# Altium integrated library Maxim Amplifiers and Comparators.IntLib: 420 symbols (part 3 of 16)
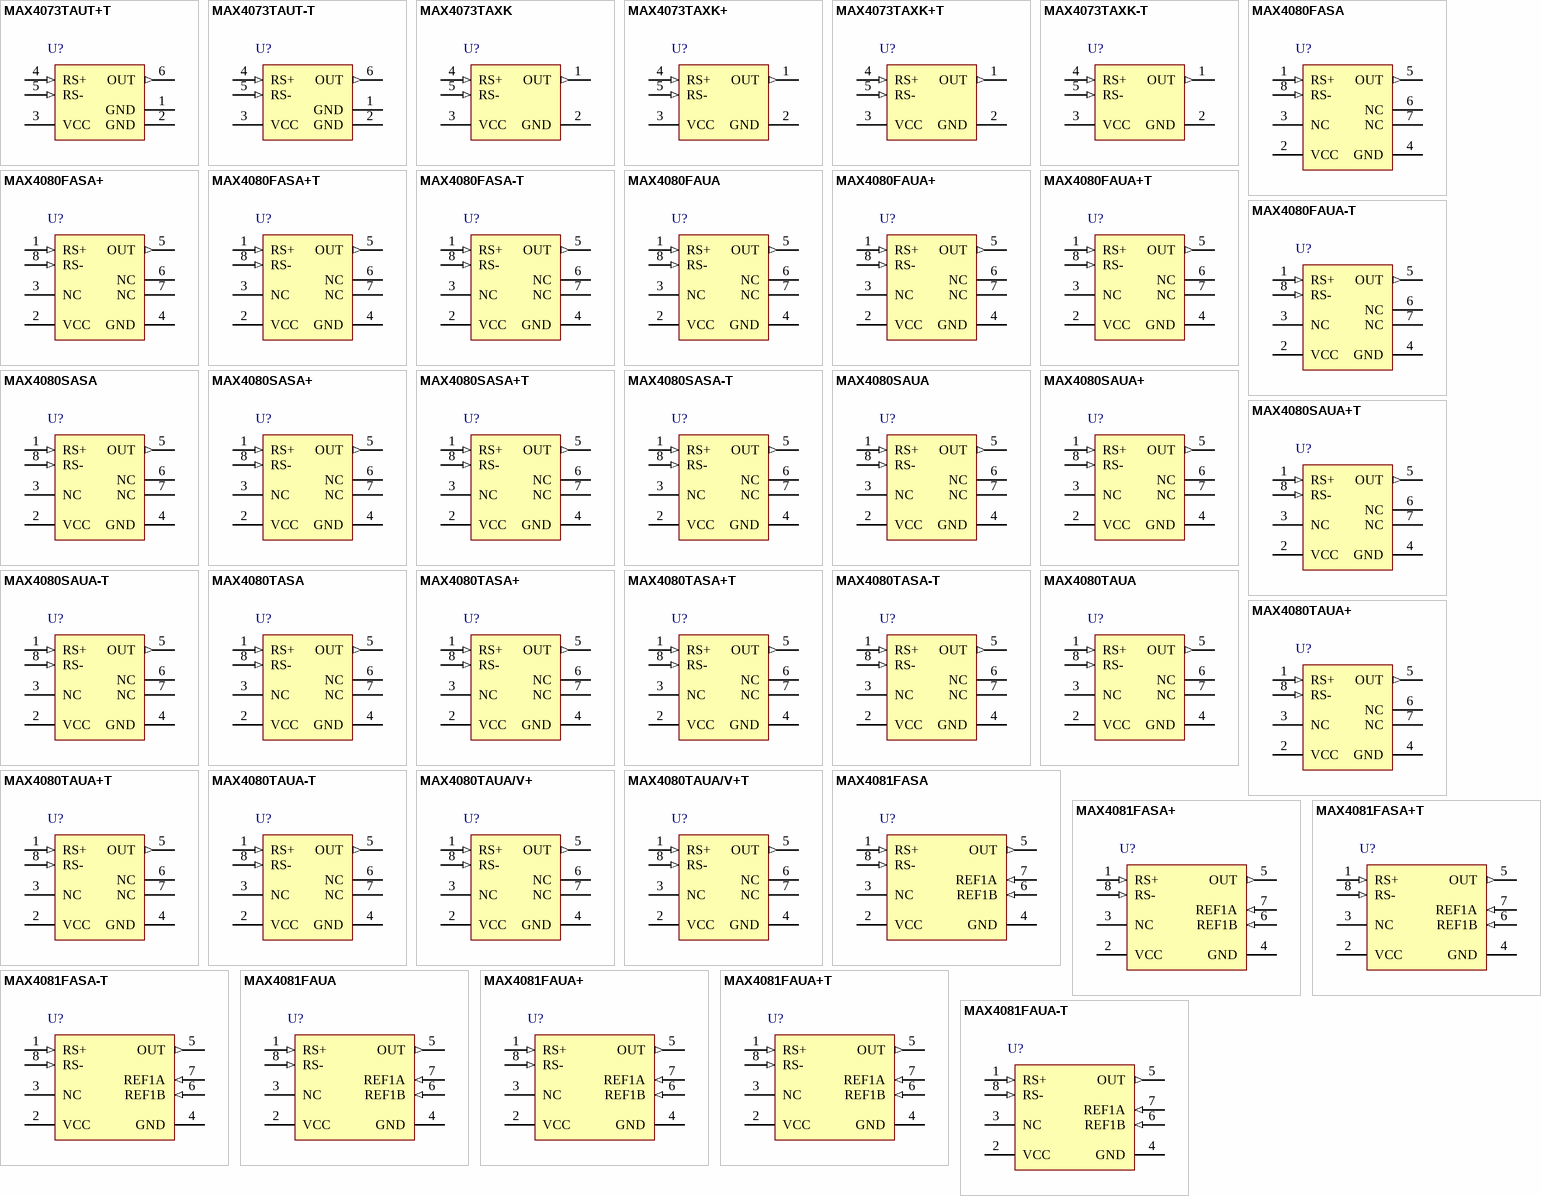
[diagram p12: symbols MAX4073TAUT+T to MAX4081FAUA-T]

## MAX4080FAUA-T
designator U?
76 V, High-Side, Uni-directional Current-Sense Amplifier, 5 V / V Gain, -40 to 125 degC, 8-Pin SOP (U8-1), Tape and Reel; PartNumber: MAX4080FAUA-T; Bi-Dir. Curr. Sense: No; Gain: 5 V/V, 20 V/V ,60 V/V; Industry Qualified: Automotive - AECQ100, Automotive - General; DatasheetVersion: Rev. 4; PackageVersion: Rev. L, 08/2009; PackageReference: U8-1; PackageDescription: 8-Pin Micro-MAX, Thin Shrink Small-Outline (U8-1), Body 3 x 3 mm, Pitch 0.65mm; Supplier 1: Mouser; Supplier Part Number 1: N/A; Mounting Technology: Surface Mount; Code_JEDEC: MO-187; ComponentLink1Description: Manufacturer URL; ComponentLink1URL: http://www.maximintegrated.com/; ComponentLink2Description: Datasheet; ComponentLink2URL: http://datasheets.maximintegrated.com/en/ds/MAX4080-MAX4081.pdf; ComponentLink3Description: Package Specification; ComponentLink3URL: http://pdfserv.maximintegrated.com/package_dwgs/21-0036.PDF
footprint MAXM-U8-1_N (SOP, 8-Leads, Body 3x3mm, Pitch 0.65mm, IPC Medium Density)
footprint MAXM-U8-1_L (SOP, 8-Leads, Body 3x3mm, Pitch 0.65mm, IPC High Density)
footprint MAXM-U8-1_M (SOP, 8-Leads, Body 3x3mm, Pitch 0.65mm, IPC Low Density)
pins: 1 RS+ (in) "Power connection to the external-sense resistor.", 2 VCC (power) "Supply Voltage Input. Decouple VCC to GND with at least a 0.1uF capacitor to bypass line transients.", 3 NC "No Connection. No internal connection. Leave open or connect to ground.", 4 GND (power) "Ground", 5 OUT (out) "Voltage Output. For the unidirectional MAX4080, VOUT is proportional to VSENSE. For the bidirectional MAX4081, the difference voltage (VOUT - VREF) is proportional to VSENSE and indicates the correct polarity.", 6 NC "No Connection. No internal connection. Leave open or connect to ground.", 7 NC "No Connection. No internal connection. Leave open or connect to ground.", 8 RS- (in) "Load connection to the external sense resistor."

## MAX4080SASA
designator U?
76 V, High-Side, Uni-directional Current-Sense Amplifier, 60 V / V Gain, -40 to 125 degC, 8-Pin SOIC (S8-2); PartNumber: MAX4080SASA; Bi-Dir. Curr. Sense: No; Gain: 5 V/V, 20 V/V ,60 V/V; Industry Qualified: Automotive - AECQ100, Automotive - General; DatasheetVersion: Rev. 4; PackageVersion: Rev. D, 10/2012; PackageReference: S8-2; PackageDescription: 8-Pin Small-Outline IC, Narrow (0.15in) (S8-2), Body 4.90 x 3.90 mm, Pitch 1.27 mm; Supplier 1: Digi-Key; Supplier Part Number 1: MAX4080SASA-ND; Supplier 2: Mouser; Supplier Part Number 2: 700-MAX4080SASA-NR; Mounting Technology: Surface Mount; Code_JEDEC: MS012; ComponentLink1Description: Manufacturer URL; ComponentLink1URL: http://www.maximintegrated.com/; ComponentLink2Description: Datasheet; ComponentLink2URL: http://datasheets.maximintegrated.com/en/ds/MAX4080-MAX4081.pdf; ComponentLink3Description: Package Specification; ComponentLink3URL: http://pdfserv.maximintegrated.com/package_dwgs/21-0041.PDF
footprint MAXM-S8-2_N (SOIC, 8-Leads, Body 4.90x3.90mm, Pitch 1.27mm, IPC Medium Density)
footprint MAXM-S8-2_L (SOIC, 8-Leads, Body 4.90x3.90mm, Pitch 1.27mm, IPC High Density)
footprint MAXM-S8-2_M (SOIC, 8-Leads, Body 4.90x3.90mm, Pitch 1.27mm, IPC Low Density)
pins: 1 RS+ (in) "Power connection to the external-sense resistor.", 2 VCC (power) "Supply Voltage Input. Decouple VCC to GND with at least a 0.1uF capacitor to bypass line transients.", 3 NC "No Connection. No internal connection. Leave open or connect to ground.", 4 GND (power) "Ground", 5 OUT (out) "Voltage Output. For the unidirectional MAX4080, VOUT is proportional to VSENSE. For the bidirectional MAX4081, the difference voltage (VOUT - VREF) is proportional to VSENSE and indicates the correct polarity.", 6 NC "No Connection. No internal connection. Leave open or connect to ground.", 7 NC "No Connection. No internal connection. Leave open or connect to ground.", 8 RS- (in) "Load connection to the external sense resistor."

## MAX4080SASA+
designator U?
76 V, High-Side, Uni-directional Current-Sense Amplifier, 60 V / V Gain, -40 to 125 degC, 8-Pin SOIC (S8+2), Pb-Free; PartNumber: MAX4080SASA+; Bi-Dir. Curr. Sense: No; Gain: 5 V/V, 20 V/V ,60 V/V; Industry Qualified: Automotive - AECQ100, Automotive - General; DatasheetVersion: Rev. 4; PackageVersion: Rev. D, 10/2012; PackageReference: S8+2; PackageDescription: 8-Pin Small-Outline IC, Narrow (0.15in) (S8+2), Body 4.90 x 3.90 mm, Pitch 1.27 mm; Supplier 1: Digi-Key; Supplier Part Number 1: MAX4080SASA+-ND; Supplier 2: Farnell; Supplier Part Number 2: 1379747; Supplier 3: Newark; Supplier Part Number 3: 37K7951; Supplier 4: Newark; Supplier Part Number 4: 26R6378; Supplier 5: Mouser; Supplier Part Number 5: 700-MAX4080SASA; Mounting Technology: Surface Mount; Code_JEDEC: MS012; ComponentLink1Description: Manufacturer URL; ComponentLink1URL: http://www.maximintegrated.com/; ComponentLink2Description: Datasheet; ComponentLink2URL: http://datasheets.maximintegrated.com/en/ds/MAX4080-MAX4081.pdf; ComponentLink3Description: Package Specification; ComponentLink3URL: http://pdfserv.maximintegrated.com/package_dwgs/21-0041.PDF
footprint MAXM-S8+2_N (SOIC, 8-Leads, Body 4.90x3.90mm, Pitch 1.27mm, IPC Medium Density)
footprint MAXM-S8+2_L (SOIC, 8-Leads, Body 4.90x3.90mm, Pitch 1.27mm, IPC High Density)
footprint MAXM-S8+2_M (SOIC, 8-Leads, Body 4.90x3.90mm, Pitch 1.27mm, IPC Low Density)
pins: 1 RS+ (in) "Power connection to the external-sense resistor.", 2 VCC (power) "Supply Voltage Input. Decouple VCC to GND with at least a 0.1uF capacitor to bypass line transients.", 3 NC "No Connection. No internal connection. Leave open or connect to ground.", 4 GND (power) "Ground", 5 OUT (out) "Voltage Output. For the unidirectional MAX4080, VOUT is proportional to VSENSE. For the bidirectional MAX4081, the difference voltage (VOUT - VREF) is proportional to VSENSE and indicates the correct polarity.", 6 NC "No Connection. No internal connection. Leave open or connect to ground.", 7 NC "No Connection. No internal connection. Leave open or connect to ground.", 8 RS- (in) "Load connection to the external sense resistor."

## MAX4080SASA+T
designator U?
76 V, High-Side, Uni-directional Current-Sense Amplifier, 60 V / V Gain, -40 to 125 degC, 8-Pin SOIC (S8+2), Pb-Free, Tape and Reel; PartNumber: MAX4080SASA+T; Bi-Dir. Curr. Sense: No; Gain: 5 V/V, 20 V/V ,60 V/V; Industry Qualified: Automotive - AECQ100, Automotive - General; DatasheetVersion: Rev. 4; PackageVersion: Rev. D, 10/2012; PackageReference: S8+2; PackageDescription: 8-Pin Small-Outline IC, Narrow (0.15in) (S8+2), Body 4.90 x 3.90 mm, Pitch 1.27 mm; Supplier 1: Digi-Key; Supplier Part Number 1: MAX4080SASA+T-ND; Supplier 2: Mouser; Supplier Part Number 2: 700-MAX4080SASA+T; Mounting Technology: Surface Mount; Code_JEDEC: MS012; ComponentLink1Description: Manufacturer URL; ComponentLink1URL: http://www.maximintegrated.com/; ComponentLink2Description: Datasheet; ComponentLink2URL: http://datasheets.maximintegrated.com/en/ds/MAX4080-MAX4081.pdf; ComponentLink3Description: Package Specification; ComponentLink3URL: http://pdfserv.maximintegrated.com/package_dwgs/21-0041.PDF
footprint MAXM-S8+2_N (SOIC, 8-Leads, Body 4.90x3.90mm, Pitch 1.27mm, IPC Medium Density)
footprint MAXM-S8+2_L (SOIC, 8-Leads, Body 4.90x3.90mm, Pitch 1.27mm, IPC High Density)
footprint MAXM-S8+2_M (SOIC, 8-Leads, Body 4.90x3.90mm, Pitch 1.27mm, IPC Low Density)
pins: 1 RS+ (in) "Power connection to the external-sense resistor.", 2 VCC (power) "Supply Voltage Input. Decouple VCC to GND with at least a 0.1uF capacitor to bypass line transients.", 3 NC "No Connection. No internal connection. Leave open or connect to ground.", 4 GND (power) "Ground", 5 OUT (out) "Voltage Output. For the unidirectional MAX4080, VOUT is proportional to VSENSE. For the bidirectional MAX4081, the difference voltage (VOUT - VREF) is proportional to VSENSE and indicates the correct polarity.", 6 NC "No Connection. No internal connection. Leave open or connect to ground.", 7 NC "No Connection. No internal connection. Leave open or connect to ground.", 8 RS- (in) "Load connection to the external sense resistor."

## MAX4080SASA-T
designator U?
76 V, High-Side, Uni-directional Current-Sense Amplifier, 60 V / V Gain, -40 to 125 degC, 8-Pin SOIC (S8-2), Tape and Reel; PartNumber: MAX4080SASA-T; Bi-Dir. Curr. Sense: No; Gain: 5 V/V, 20 V/V ,60 V/V; Industry Qualified: Automotive - AECQ100, Automotive - General; DatasheetVersion: Rev. 4; PackageVersion: Rev. D, 10/2012; PackageReference: S8-2; PackageDescription: 8-Pin Small-Outline IC, Narrow (0.15in) (S8-2), Body 4.90 x 3.90 mm, Pitch 1.27 mm; Supplier 1: Digi-Key; Supplier Part Number 1: MAX4080SASA-T-ND; Supplier 2: Mouser; Supplier Part Number 2: 700-MAX4080SASA-T-; Mounting Technology: Surface Mount; Code_JEDEC: MS012; ComponentLink1Description: Manufacturer URL; ComponentLink1URL: http://www.maximintegrated.com/; ComponentLink2Description: Datasheet; ComponentLink2URL: http://datasheets.maximintegrated.com/en/ds/MAX4080-MAX4081.pdf; ComponentLink3Description: Package Specification; ComponentLink3URL: http://pdfserv.maximintegrated.com/package_dwgs/21-0041.PDF
footprint MAXM-S8-2_N (SOIC, 8-Leads, Body 4.90x3.90mm, Pitch 1.27mm, IPC Medium Density)
footprint MAXM-S8-2_L (SOIC, 8-Leads, Body 4.90x3.90mm, Pitch 1.27mm, IPC High Density)
footprint MAXM-S8-2_M (SOIC, 8-Leads, Body 4.90x3.90mm, Pitch 1.27mm, IPC Low Density)
pins: 1 RS+ (in) "Power connection to the external-sense resistor.", 2 VCC (power) "Supply Voltage Input. Decouple VCC to GND with at least a 0.1uF capacitor to bypass line transients.", 3 NC "No Connection. No internal connection. Leave open or connect to ground.", 4 GND (power) "Ground", 5 OUT (out) "Voltage Output. For the unidirectional MAX4080, VOUT is proportional to VSENSE. For the bidirectional MAX4081, the difference voltage (VOUT - VREF) is proportional to VSENSE and indicates the correct polarity.", 6 NC "No Connection. No internal connection. Leave open or connect to ground.", 7 NC "No Connection. No internal connection. Leave open or connect to ground.", 8 RS- (in) "Load connection to the external sense resistor."

## MAX4080SAUA
designator U?
76 V, High-Side, Uni-directional Current-Sense Amplifier, 60 V / V Gain, -40 to 125 degC, 8-Pin SOP (U8-1); PartNumber: MAX4080SAUA; Bi-Dir. Curr. Sense: No; Gain: 5 V/V, 20 V/V ,60 V/V; Industry Qualified: Automotive - AECQ100, Automotive - General; DatasheetVersion: Rev. 4; PackageVersion: Rev. L, 08/2009; PackageReference: U8-1; PackageDescription: 8-Pin Micro-MAX, Thin Shrink Small-Outline (U8-1), Body 3 x 3 mm, Pitch 0.65mm; Supplier 1: Mouser; Supplier Part Number 1: 700-MAX4080SAUA-NR; Mounting Technology: Surface Mount; Code_JEDEC: MO-187; ComponentLink1Description: Manufacturer URL; ComponentLink1URL: http://www.maximintegrated.com/; ComponentLink2Description: Datasheet; ComponentLink2URL: http://datasheets.maximintegrated.com/en/ds/MAX4080-MAX4081.pdf; ComponentLink3Description: Package Specification; ComponentLink3URL: http://pdfserv.maximintegrated.com/package_dwgs/21-0036.PDF
footprint MAXM-U8-1_N (SOP, 8-Leads, Body 3x3mm, Pitch 0.65mm, IPC Medium Density)
footprint MAXM-U8-1_L (SOP, 8-Leads, Body 3x3mm, Pitch 0.65mm, IPC High Density)
footprint MAXM-U8-1_M (SOP, 8-Leads, Body 3x3mm, Pitch 0.65mm, IPC Low Density)
pins: 1 RS+ (in) "Power connection to the external-sense resistor.", 2 VCC (power) "Supply Voltage Input. Decouple VCC to GND with at least a 0.1uF capacitor to bypass line transients.", 3 NC "No Connection. No internal connection. Leave open or connect to ground.", 4 GND (power) "Ground", 5 OUT (out) "Voltage Output. For the unidirectional MAX4080, VOUT is proportional to VSENSE. For the bidirectional MAX4081, the difference voltage (VOUT - VREF) is proportional to VSENSE and indicates the correct polarity.", 6 NC "No Connection. No internal connection. Leave open or connect to ground.", 7 NC "No Connection. No internal connection. Leave open or connect to ground.", 8 RS- (in) "Load connection to the external sense resistor."

## MAX4080SAUA+
designator U?
76 V, High-Side, Uni-directional Current-Sense Amplifier, 60 V / V Gain, -40 to 125 degC, 8-Pin SOP (U8+1), Pb-Free; PartNumber: MAX4080SAUA+; Bi-Dir. Curr. Sense: No; Gain: 5 V/V, 20 V/V ,60 V/V; Industry Qualified: Automotive - AECQ100, Automotive - General; DatasheetVersion: Rev. 4; PackageVersion: Rev. L, 08/2009; PackageReference: U8+1; PackageDescription: 8-Pin Micro-MAX, Thin Shrink Small-Outline (U8+1), Body 3 x 3 mm, Pitch 0.65 mm; Supplier 1: Digi-Key; Supplier Part Number 1: MAX4080SAUA+-ND; Supplier 2: Mouser; Supplier Part Number 2: 700-MAX4080SAUA; Mounting Technology: Surface Mount; Code_JEDEC: MO-187; ComponentLink1Description: Manufacturer URL; ComponentLink1URL: http://www.maximintegrated.com/; ComponentLink2Description: Datasheet; ComponentLink2URL: http://datasheets.maximintegrated.com/en/ds/MAX4080-MAX4081.pdf; ComponentLink3Description: Package Specification; ComponentLink3URL: http://pdfserv.maximintegrated.com/package_dwgs/21-0036.PDF
footprint MAXM-U8+1_N (SOP, 8-Leads, Body 3x3mm, Pitch 0.65mm, IPC Medium Density)
footprint MAXM-U8+1_L (SOP, 8-Leads, Body 3x3mm, Pitch 0.65mm, IPC High Density)
footprint MAXM-U8+1_M (SOP, 8-Leads, Body 3x3mm, Pitch 0.65mm, IPC Low Density)
pins: 1 RS+ (in) "Power connection to the external-sense resistor.", 2 VCC (power) "Supply Voltage Input. Decouple VCC to GND with at least a 0.1uF capacitor to bypass line transients.", 3 NC "No Connection. No internal connection. Leave open or connect to ground.", 4 GND (power) "Ground", 5 OUT (out) "Voltage Output. For the unidirectional MAX4080, VOUT is proportional to VSENSE. For the bidirectional MAX4081, the difference voltage (VOUT - VREF) is proportional to VSENSE and indicates the correct polarity.", 6 NC "No Connection. No internal connection. Leave open or connect to ground.", 7 NC "No Connection. No internal connection. Leave open or connect to ground.", 8 RS- (in) "Load connection to the external sense resistor."

## MAX4080SAUA+T
designator U?
76 V, High-Side, Uni-directional Current-Sense Amplifier, 60 V / V Gain, -40 to 125 degC, 8-Pin SOP (U8+1), Pb-Free, Tape and Reel; PartNumber: MAX4080SAUA+T; Bi-Dir. Curr. Sense: No; Gain: 5 V/V, 20 V/V ,60 V/V; Industry Qualified: Automotive - AECQ100, Automotive - General; DatasheetVersion: Rev. 4; PackageVersion: Rev. L, 08/2009; PackageReference: U8+1; PackageDescription: 8-Pin Micro-MAX, Thin Shrink Small-Outline (U8+1), Body 3 x 3 mm, Pitch 0.65 mm; Supplier 1: Digi-Key; Supplier Part Number 1: MAX4080SAUA+T-ND; Supplier 2: Mouser; Supplier Part Number 2: 700-MAX4080SAUA+T; Mounting Technology: Surface Mount; Code_JEDEC: MO-187; ComponentLink1Description: Manufacturer URL; ComponentLink1URL: http://www.maximintegrated.com/; ComponentLink2Description: Datasheet; ComponentLink2URL: http://datasheets.maximintegrated.com/en/ds/MAX4080-MAX4081.pdf; ComponentLink3Description: Package Specification; ComponentLink3URL: http://pdfserv.maximintegrated.com/package_dwgs/21-0036.PDF
footprint MAXM-U8+1_N (SOP, 8-Leads, Body 3x3mm, Pitch 0.65mm, IPC Medium Density)
footprint MAXM-U8+1_L (SOP, 8-Leads, Body 3x3mm, Pitch 0.65mm, IPC High Density)
footprint MAXM-U8+1_M (SOP, 8-Leads, Body 3x3mm, Pitch 0.65mm, IPC Low Density)
pins: 1 RS+ (in) "Power connection to the external-sense resistor.", 2 VCC (power) "Supply Voltage Input. Decouple VCC to GND with at least a 0.1uF capacitor to bypass line transients.", 3 NC "No Connection. No internal connection. Leave open or connect to ground.", 4 GND (power) "Ground", 5 OUT (out) "Voltage Output. For the unidirectional MAX4080, VOUT is proportional to VSENSE. For the bidirectional MAX4081, the difference voltage (VOUT - VREF) is proportional to VSENSE and indicates the correct polarity.", 6 NC "No Connection. No internal connection. Leave open or connect to ground.", 7 NC "No Connection. No internal connection. Leave open or connect to ground.", 8 RS- (in) "Load connection to the external sense resistor."

## MAX4080SAUA-T
designator U?
76 V, High-Side, Uni-directional Current-Sense Amplifier, 60 V / V Gain, -40 to 125 degC, 8-Pin SOP (U8-1), Tape and Reel; PartNumber: MAX4080SAUA-T; Bi-Dir. Curr. Sense: No; Gain: 5 V/V, 20 V/V ,60 V/V; Industry Qualified: Automotive - AECQ100, Automotive - General; DatasheetVersion: Rev. 4; PackageVersion: Rev. L, 08/2009; PackageReference: U8-1; PackageDescription: 8-Pin Micro-MAX, Thin Shrink Small-Outline (U8-1), Body 3 x 3 mm, Pitch 0.65mm; Supplier 1: Mouser; Supplier Part Number 1: 700-MAX4080SAUA-T-; Mounting Technology: Surface Mount; Code_JEDEC: MO-187; ComponentLink1Description: Manufacturer URL; ComponentLink1URL: http://www.maximintegrated.com/; ComponentLink2Description: Datasheet; ComponentLink2URL: http://datasheets.maximintegrated.com/en/ds/MAX4080-MAX4081.pdf; ComponentLink3Description: Package Specification; ComponentLink3URL: http://pdfserv.maximintegrated.com/package_dwgs/21-0036.PDF
footprint MAXM-U8-1_N (SOP, 8-Leads, Body 3x3mm, Pitch 0.65mm, IPC Medium Density)
footprint MAXM-U8-1_L (SOP, 8-Leads, Body 3x3mm, Pitch 0.65mm, IPC High Density)
footprint MAXM-U8-1_M (SOP, 8-Leads, Body 3x3mm, Pitch 0.65mm, IPC Low Density)
pins: 1 RS+ (in) "Power connection to the external-sense resistor.", 2 VCC (power) "Supply Voltage Input. Decouple VCC to GND with at least a 0.1uF capacitor to bypass line transients.", 3 NC "No Connection. No internal connection. Leave open or connect to ground.", 4 GND (power) "Ground", 5 OUT (out) "Voltage Output. For the unidirectional MAX4080, VOUT is proportional to VSENSE. For the bidirectional MAX4081, the difference voltage (VOUT - VREF) is proportional to VSENSE and indicates the correct polarity.", 6 NC "No Connection. No internal connection. Leave open or connect to ground.", 7 NC "No Connection. No internal connection. Leave open or connect to ground.", 8 RS- (in) "Load connection to the external sense resistor."

## MAX4080TASA
designator U?
76 V, High-Side, Uni-directional Current-Sense Amplifier, 20 V / V Gain, -40 to 125 degC, 8-Pin SOIC (S8-2); PartNumber: MAX4080TASA; Bi-Dir. Curr. Sense: No; Gain: 5 V/V, 20 V/V ,60 V/V; Industry Qualified: Automotive - AECQ100, Automotive - General; DatasheetVersion: Rev. 4; PackageVersion: Rev. D, 10/2012; PackageReference: S8-2; PackageDescription: 8-Pin Small-Outline IC, Narrow (0.15in) (S8-2), Body 4.90 x 3.90 mm, Pitch 1.27 mm; Supplier 1: Digi-Key; Supplier Part Number 1: MAX4080TASA-ND; Supplier 2: Mouser; Supplier Part Number 2: 700-MAX4080TASA-NR; Mounting Technology: Surface Mount; Code_JEDEC: MS012; ComponentLink1Description: Manufacturer URL; ComponentLink1URL: http://www.maximintegrated.com/; ComponentLink2Description: Datasheet; ComponentLink2URL: http://datasheets.maximintegrated.com/en/ds/MAX4080-MAX4081.pdf; ComponentLink3Description: Package Specification; ComponentLink3URL: http://pdfserv.maximintegrated.com/package_dwgs/21-0041.PDF
footprint MAXM-S8-2_N (SOIC, 8-Leads, Body 4.90x3.90mm, Pitch 1.27mm, IPC Medium Density)
footprint MAXM-S8-2_L (SOIC, 8-Leads, Body 4.90x3.90mm, Pitch 1.27mm, IPC High Density)
footprint MAXM-S8-2_M (SOIC, 8-Leads, Body 4.90x3.90mm, Pitch 1.27mm, IPC Low Density)
pins: 1 RS+ (in) "Power connection to the external-sense resistor.", 2 VCC (power) "Supply Voltage Input. Decouple VCC to GND with at least a 0.1uF capacitor to bypass line transients.", 3 NC "No Connection. No internal connection. Leave open or connect to ground.", 4 GND (power) "Ground", 5 OUT (out) "Voltage Output. For the unidirectional MAX4080, VOUT is proportional to VSENSE. For the bidirectional MAX4081, the difference voltage (VOUT - VREF) is proportional to VSENSE and indicates the correct polarity.", 6 NC "No Connection. No internal connection. Leave open or connect to ground.", 7 NC "No Connection. No internal connection. Leave open or connect to ground.", 8 RS- (in) "Load connection to the external sense resistor."

## MAX4080TASA+
designator U?
76 V, High-Side, Uni-directional Current-Sense Amplifier, 20 V / V Gain, -40 to 125 degC, 8-Pin SOIC (S8+2), Pb-Free; PartNumber: MAX4080TASA+; Bi-Dir. Curr. Sense: No; Gain: 5 V/V, 20 V/V ,60 V/V; Industry Qualified: Automotive - AECQ100, Automotive - General; DatasheetVersion: Rev. 4; PackageVersion: Rev. D, 10/2012; PackageReference: S8+2; PackageDescription: 8-Pin Small-Outline IC, Narrow (0.15in) (S8+2), Body 4.90 x 3.90 mm, Pitch 1.27 mm; Supplier 1: Digi-Key; Supplier Part Number 1: MAX4080TASA+-ND; Supplier 2: Farnell; Supplier Part Number 2: 1593368; Supplier 3: Newark; Supplier Part Number 3: 08J7675; Supplier 4: Newark; Supplier Part Number 4: 26R6379; Supplier 5: Mouser; Supplier Part Number 5: 700-MAX4080TASA; Mounting Technology: Surface Mount; Code_JEDEC: MS012; ComponentLink1Description: Manufacturer URL; ComponentLink1URL: http://www.maximintegrated.com/; ComponentLink2Description: Datasheet; ComponentLink2URL: http://datasheets.maximintegrated.com/en/ds/MAX4080-MAX4081.pdf; ComponentLink3Description: Package Specification; ComponentLink3URL: http://pdfserv.maximintegrated.com/package_dwgs/21-0041.PDF
footprint MAXM-S8+2_N (SOIC, 8-Leads, Body 4.90x3.90mm, Pitch 1.27mm, IPC Medium Density)
footprint MAXM-S8+2_L (SOIC, 8-Leads, Body 4.90x3.90mm, Pitch 1.27mm, IPC High Density)
footprint MAXM-S8+2_M (SOIC, 8-Leads, Body 4.90x3.90mm, Pitch 1.27mm, IPC Low Density)
pins: 1 RS+ (in) "Power connection to the external-sense resistor.", 2 VCC (power) "Supply Voltage Input. Decouple VCC to GND with at least a 0.1uF capacitor to bypass line transients.", 3 NC "No Connection. No internal connection. Leave open or connect to ground.", 4 GND (power) "Ground", 5 OUT (out) "Voltage Output. For the unidirectional MAX4080, VOUT is proportional to VSENSE. For the bidirectional MAX4081, the difference voltage (VOUT - VREF) is proportional to VSENSE and indicates the correct polarity.", 6 NC "No Connection. No internal connection. Leave open or connect to ground.", 7 NC "No Connection. No internal connection. Leave open or connect to ground.", 8 RS- (in) "Load connection to the external sense resistor."

## MAX4080TASA+T
designator U?
76 V, High-Side, Uni-directional Current-Sense Amplifier, 20 V / V Gain, -40 to 125 degC, 8-Pin SOIC (S8+2), Pb-Free, Tape and Reel; PartNumber: MAX4080TASA+T; Bi-Dir. Curr. Sense: No; Gain: 5 V/V, 20 V/V ,60 V/V; Industry Qualified: Automotive - AECQ100, Automotive - General; DatasheetVersion: Rev. 4; PackageVersion: Rev. D, 10/2012; PackageReference: S8+2; PackageDescription: 8-Pin Small-Outline IC, Narrow (0.15in) (S8+2), Body 4.90 x 3.90 mm, Pitch 1.27 mm; Supplier 1: Digi-Key; Supplier Part Number 1: MAX4080TASA+T-ND; Supplier 2: Mouser; Supplier Part Number 2: 700-MAX4080TASA+T; Mounting Technology: Surface Mount; Code_JEDEC: MS012; ComponentLink1Description: Manufacturer URL; ComponentLink1URL: http://www.maximintegrated.com/; ComponentLink2Description: Datasheet; ComponentLink2URL: http://datasheets.maximintegrated.com/en/ds/MAX4080-MAX4081.pdf; ComponentLink3Description: Package Specification; ComponentLink3URL: http://pdfserv.maximintegrated.com/package_dwgs/21-0041.PDF
footprint MAXM-S8+2_N (SOIC, 8-Leads, Body 4.90x3.90mm, Pitch 1.27mm, IPC Medium Density)
footprint MAXM-S8+2_L (SOIC, 8-Leads, Body 4.90x3.90mm, Pitch 1.27mm, IPC High Density)
footprint MAXM-S8+2_M (SOIC, 8-Leads, Body 4.90x3.90mm, Pitch 1.27mm, IPC Low Density)
pins: 1 RS+ (in) "Power connection to the external-sense resistor.", 2 VCC (power) "Supply Voltage Input. Decouple VCC to GND with at least a 0.1uF capacitor to bypass line transients.", 3 NC "No Connection. No internal connection. Leave open or connect to ground.", 4 GND (power) "Ground", 5 OUT (out) "Voltage Output. For the unidirectional MAX4080, VOUT is proportional to VSENSE. For the bidirectional MAX4081, the difference voltage (VOUT - VREF) is proportional to VSENSE and indicates the correct polarity.", 6 NC "No Connection. No internal connection. Leave open or connect to ground.", 7 NC "No Connection. No internal connection. Leave open or connect to ground.", 8 RS- (in) "Load connection to the external sense resistor."

## MAX4080TASA-T
designator U?
76 V, High-Side, Uni-directional Current-Sense Amplifier, 20 V / V Gain, -40 to 125 degC, 8-Pin SOIC (S8-2), Tape and Reel; PartNumber: MAX4080TASA-T; Bi-Dir. Curr. Sense: No; Gain: 5 V/V, 20 V/V ,60 V/V; Industry Qualified: Automotive - AECQ100, Automotive - General; DatasheetVersion: Rev. 4; PackageVersion: Rev. D, 10/2012; PackageReference: S8-2; PackageDescription: 8-Pin Small-Outline IC, Narrow (0.15in) (S8-2), Body 4.90 x 3.90 mm, Pitch 1.27 mm; Supplier 1: Digi-Key; Supplier Part Number 1: MAX4080TASA-T-ND; Supplier 2: Mouser; Supplier Part Number 2: 700-MAX4080TASA-T-; Mounting Technology: Surface Mount; Code_JEDEC: MS012; ComponentLink1Description: Manufacturer URL; ComponentLink1URL: http://www.maximintegrated.com/; ComponentLink2Description: Datasheet; ComponentLink2URL: http://datasheets.maximintegrated.com/en/ds/MAX4080-MAX4081.pdf; ComponentLink3Description: Package Specification; ComponentLink3URL: http://pdfserv.maximintegrated.com/package_dwgs/21-0041.PDF
footprint MAXM-S8-2_N (SOIC, 8-Leads, Body 4.90x3.90mm, Pitch 1.27mm, IPC Medium Density)
footprint MAXM-S8-2_L (SOIC, 8-Leads, Body 4.90x3.90mm, Pitch 1.27mm, IPC High Density)
footprint MAXM-S8-2_M (SOIC, 8-Leads, Body 4.90x3.90mm, Pitch 1.27mm, IPC Low Density)
pins: 1 RS+ (in) "Power connection to the external-sense resistor.", 2 VCC (power) "Supply Voltage Input. Decouple VCC to GND with at least a 0.1uF capacitor to bypass line transients.", 3 NC "No Connection. No internal connection. Leave open or connect to ground.", 4 GND (power) "Ground", 5 OUT (out) "Voltage Output. For the unidirectional MAX4080, VOUT is proportional to VSENSE. For the bidirectional MAX4081, the difference voltage (VOUT - VREF) is proportional to VSENSE and indicates the correct polarity.", 6 NC "No Connection. No internal connection. Leave open or connect to ground.", 7 NC "No Connection. No internal connection. Leave open or connect to ground.", 8 RS- (in) "Load connection to the external sense resistor."

## MAX4080TAUA
designator U?
76 V, High-Side, Uni-directional Current-Sense Amplifier, 20 V / V Gain, -40 to 125 degC, 8-Pin SOP (U8-1); PartNumber: MAX4080TAUA; Bi-Dir. Curr. Sense: No; Gain: 5 V/V, 20 V/V ,60 V/V; Industry Qualified: Automotive - AECQ100, Automotive - General; DatasheetVersion: Rev. 4; PackageVersion: Rev. L, 08/2009; PackageReference: U8-1; PackageDescription: 8-Pin Micro-MAX, Thin Shrink Small-Outline (U8-1), Body 3 x 3 mm, Pitch 0.65mm; Supplier 1: Digi-Key; Supplier Part Number 1: MAX4080TAUA-ND; Supplier 2: Mouser; Supplier Part Number 2: 700-MAX4080TAUA-NR; Mounting Technology: Surface Mount; Code_JEDEC: MO-187; ComponentLink1Description: Manufacturer URL; ComponentLink1URL: http://www.maximintegrated.com/; ComponentLink2Description: Datasheet; ComponentLink2URL: http://datasheets.maximintegrated.com/en/ds/MAX4080-MAX4081.pdf; ComponentLink3Description: Package Specification; ComponentLink3URL: http://pdfserv.maximintegrated.com/package_dwgs/21-0036.PDF
footprint MAXM-U8-1_N (SOP, 8-Leads, Body 3x3mm, Pitch 0.65mm, IPC Medium Density)
footprint MAXM-U8-1_L (SOP, 8-Leads, Body 3x3mm, Pitch 0.65mm, IPC High Density)
footprint MAXM-U8-1_M (SOP, 8-Leads, Body 3x3mm, Pitch 0.65mm, IPC Low Density)
pins: 1 RS+ (in) "Power connection to the external-sense resistor.", 2 VCC (power) "Supply Voltage Input. Decouple VCC to GND with at least a 0.1uF capacitor to bypass line transients.", 3 NC "No Connection. No internal connection. Leave open or connect to ground.", 4 GND (power) "Ground", 5 OUT (out) "Voltage Output. For the unidirectional MAX4080, VOUT is proportional to VSENSE. For the bidirectional MAX4081, the difference voltage (VOUT - VREF) is proportional to VSENSE and indicates the correct polarity.", 6 NC "No Connection. No internal connection. Leave open or connect to ground.", 7 NC "No Connection. No internal connection. Leave open or connect to ground.", 8 RS- (in) "Load connection to the external sense resistor."

## MAX4080TAUA+
designator U?
76 V, High-Side, Uni-directional Current-Sense Amplifier, 20 V / V Gain, -40 to 125 degC, 8-Pin SOP (U8+1), Pb-Free; PartNumber: MAX4080TAUA+; Bi-Dir. Curr. Sense: No; Gain: 5 V/V, 20 V/V ,60 V/V; Industry Qualified: Automotive - AECQ100, Automotive - General; DatasheetVersion: Rev. 4; PackageVersion: Rev. L, 08/2009; PackageReference: U8+1; PackageDescription: 8-Pin Micro-MAX, Thin Shrink Small-Outline (U8+1), Body 3 x 3 mm, Pitch 0.65 mm; Supplier 1: Digi-Key; Supplier Part Number 1: MAX4080TAUA+-ND; Supplier 2: Farnell; Supplier Part Number 2: 2113113; Supplier 3: Newark; Supplier Part Number 3: 95T9189; Supplier 4: Mouser; Supplier Part Number 4: 700-MAX4080TAUA; Mounting Technology: Surface Mount; Code_JEDEC: MO-187; ComponentLink1Description: Manufacturer URL; ComponentLink1URL: http://www.maximintegrated.com/; ComponentLink2Description: Datasheet; ComponentLink2URL: http://datasheets.maximintegrated.com/en/ds/MAX4080-MAX4081.pdf; ComponentLink3Description: Package Specification; ComponentLink3URL: http://pdfserv.maximintegrated.com/package_dwgs/21-0036.PDF
footprint MAXM-U8+1_N (SOP, 8-Leads, Body 3x3mm, Pitch 0.65mm, IPC Medium Density)
footprint MAXM-U8+1_L (SOP, 8-Leads, Body 3x3mm, Pitch 0.65mm, IPC High Density)
footprint MAXM-U8+1_M (SOP, 8-Leads, Body 3x3mm, Pitch 0.65mm, IPC Low Density)
pins: 1 RS+ (in) "Power connection to the external-sense resistor.", 2 VCC (power) "Supply Voltage Input. Decouple VCC to GND with at least a 0.1uF capacitor to bypass line transients.", 3 NC "No Connection. No internal connection. Leave open or connect to ground.", 4 GND (power) "Ground", 5 OUT (out) "Voltage Output. For the unidirectional MAX4080, VOUT is proportional to VSENSE. For the bidirectional MAX4081, the difference voltage (VOUT - VREF) is proportional to VSENSE and indicates the correct polarity.", 6 NC "No Connection. No internal connection. Leave open or connect to ground.", 7 NC "No Connection. No internal connection. Leave open or connect to ground.", 8 RS- (in) "Load connection to the external sense resistor."

## MAX4080TAUA+T
designator U?
76 V, High-Side, Uni-directional Current-Sense Amplifier, 20 V / V Gain, -40 to 125 degC, 8-Pin SOP (U8+1), Pb-Free, Tape and Reel; PartNumber: MAX4080TAUA+T; Bi-Dir. Curr. Sense: No; Gain: 5 V/V, 20 V/V ,60 V/V; Industry Qualified: Automotive - AECQ100, Automotive - General; DatasheetVersion: Rev. 4; PackageVersion: Rev. L, 08/2009; PackageReference: U8+1; PackageDescription: 8-Pin Micro-MAX, Thin Shrink Small-Outline (U8+1), Body 3 x 3 mm, Pitch 0.65 mm; Supplier 1: Digi-Key; Supplier Part Number 1: MAX4080TAUA+T-ND; Supplier 2: Mouser; Supplier Part Number 2: 700-MAX4080TAUA+T; Mounting Technology: Surface Mount; Code_JEDEC: MO-187; ComponentLink1Description: Manufacturer URL; ComponentLink1URL: http://www.maximintegrated.com/; ComponentLink2Description: Datasheet; ComponentLink2URL: http://datasheets.maximintegrated.com/en/ds/MAX4080-MAX4081.pdf; ComponentLink3Description: Package Specification; ComponentLink3URL: http://pdfserv.maximintegrated.com/package_dwgs/21-0036.PDF
footprint MAXM-U8+1_N (SOP, 8-Leads, Body 3x3mm, Pitch 0.65mm, IPC Medium Density)
footprint MAXM-U8+1_L (SOP, 8-Leads, Body 3x3mm, Pitch 0.65mm, IPC High Density)
footprint MAXM-U8+1_M (SOP, 8-Leads, Body 3x3mm, Pitch 0.65mm, IPC Low Density)
pins: 1 RS+ (in) "Power connection to the external-sense resistor.", 2 VCC (power) "Supply Voltage Input. Decouple VCC to GND with at least a 0.1uF capacitor to bypass line transients.", 3 NC "No Connection. No internal connection. Leave open or connect to ground.", 4 GND (power) "Ground", 5 OUT (out) "Voltage Output. For the unidirectional MAX4080, VOUT is proportional to VSENSE. For the bidirectional MAX4081, the difference voltage (VOUT - VREF) is proportional to VSENSE and indicates the correct polarity.", 6 NC "No Connection. No internal connection. Leave open or connect to ground.", 7 NC "No Connection. No internal connection. Leave open or connect to ground.", 8 RS- (in) "Load connection to the external sense resistor."

## MAX4080TAUA-T
designator U?
76 V, High-Side, Uni-directional Current-Sense Amplifier, 20 V / V Gain, -40 to 125 degC, 8-Pin SOP (U8-1), Tape and Reel; PartNumber: MAX4080TAUA-T; Bi-Dir. Curr. Sense: No; Gain: 5 V/V, 20 V/V ,60 V/V; Industry Qualified: Automotive - AECQ100, Automotive - General; DatasheetVersion: Rev. 4; PackageVersion: Rev. L, 08/2009; PackageReference: U8-1; PackageDescription: 8-Pin Micro-MAX, Thin Shrink Small-Outline (U8-1), Body 3 x 3 mm, Pitch 0.65mm; Supplier 1: Digi-Key; Supplier Part Number 1: MAX4080TAUA-T-ND; Supplier 2: Mouser; Supplier Part Number 2: 700-MAX4080TAUA-T-; Mounting Technology: Surface Mount; Code_JEDEC: MO-187; ComponentLink1Description: Manufacturer URL; ComponentLink1URL: http://www.maximintegrated.com/; ComponentLink2Description: Datasheet; ComponentLink2URL: http://datasheets.maximintegrated.com/en/ds/MAX4080-MAX4081.pdf; ComponentLink3Description: Package Specification; ComponentLink3URL: http://pdfserv.maximintegrated.com/package_dwgs/21-0036.PDF
footprint MAXM-U8-1_N (SOP, 8-Leads, Body 3x3mm, Pitch 0.65mm, IPC Medium Density)
footprint MAXM-U8-1_L (SOP, 8-Leads, Body 3x3mm, Pitch 0.65mm, IPC High Density)
footprint MAXM-U8-1_M (SOP, 8-Leads, Body 3x3mm, Pitch 0.65mm, IPC Low Density)
pins: 1 RS+ (in) "Power connection to the external-sense resistor.", 2 VCC (power) "Supply Voltage Input. Decouple VCC to GND with at least a 0.1uF capacitor to bypass line transients.", 3 NC "No Connection. No internal connection. Leave open or connect to ground.", 4 GND (power) "Ground", 5 OUT (out) "Voltage Output. For the unidirectional MAX4080, VOUT is proportional to VSENSE. For the bidirectional MAX4081, the difference voltage (VOUT - VREF) is proportional to VSENSE and indicates the correct polarity.", 6 NC "No Connection. No internal connection. Leave open or connect to ground.", 7 NC "No Connection. No internal connection. Leave open or connect to ground.", 8 RS- (in) "Load connection to the external sense resistor."

## MAX4080TAUA/V+
designator U?
76 V, High-Side, Uni-directional Current-Sense Amplifier, 20 V / V Gain, -40 to 125 degC, 8-Pin SOP (U8+1), Pb-Free; PartNumber: MAX4080TAUA/V+; Bi-Dir. Curr. Sense: No; Gain: 5 V/V, 20 V/V ,60 V/V; Industry Qualified: Automotive - AECQ100, Automotive - General; DatasheetVersion: Rev. 4; PackageVersion: Rev. L, 08/2009; PackageReference: U8+1; PackageDescription: 8-Pin Micro-MAX, Thin Shrink Small-Outline (U8+1), Body 3 x 3 mm, Pitch 0.65 mm; Supplier 1: Digi-Key; Supplier Part Number 1: MAX4080TAUA/V+-ND; Supplier 2: Mouser; Supplier Part Number 2: 700-MAX4080TAUAV+; Mounting Technology: Surface Mount; Code_JEDEC: MO-187; ComponentLink1Description: Manufacturer URL; ComponentLink1URL: http://www.maximintegrated.com/; ComponentLink2Description: Datasheet; ComponentLink2URL: http://datasheets.maximintegrated.com/en/ds/MAX4080-MAX4081.pdf; ComponentLink3Description: Package Specification; ComponentLink3URL: http://pdfserv.maximintegrated.com/package_dwgs/21-0036.PDF
footprint MAXM-U8+1_N (SOP, 8-Leads, Body 3x3mm, Pitch 0.65mm, IPC Medium Density)
footprint MAXM-U8+1_L (SOP, 8-Leads, Body 3x3mm, Pitch 0.65mm, IPC High Density)
footprint MAXM-U8+1_M (SOP, 8-Leads, Body 3x3mm, Pitch 0.65mm, IPC Low Density)
pins: 1 RS+ (in) "Power connection to the external-sense resistor.", 2 VCC (power) "Supply Voltage Input. Decouple VCC to GND with at least a 0.1uF capacitor to bypass line transients.", 3 NC "No Connection. No internal connection. Leave open or connect to ground.", 4 GND (power) "Ground", 5 OUT (out) "Voltage Output. For the unidirectional MAX4080, VOUT is proportional to VSENSE. For the bidirectional MAX4081, the difference voltage (VOUT - VREF) is proportional to VSENSE and indicates the correct polarity.", 6 NC "No Connection. No internal connection. Leave open or connect to ground.", 7 NC "No Connection. No internal connection. Leave open or connect to ground.", 8 RS- (in) "Load connection to the external sense resistor."

## MAX4080TAUA/V+T
designator U?
76 V, High-Side, Uni-directional Current-Sense Amplifier, 20 V / V Gain, -40 to 125 degC, 8-Pin SOP (U8+1), Pb-Free, Tape and Reel; PartNumber: MAX4080TAUA/V+T; Bi-Dir. Curr. Sense: No; Gain: 5 V/V, 20 V/V ,60 V/V; Industry Qualified: Automotive - AECQ100, Automotive - General; DatasheetVersion: Rev. 4; PackageVersion: Rev. L, 08/2009; PackageReference: U8+1; PackageDescription: 8-Pin Micro-MAX, Thin Shrink Small-Outline (U8+1), Body 3 x 3 mm, Pitch 0.65 mm; Supplier 1: Digi-Key; Supplier Part Number 1: MAX4080TAUA/V+T-ND; Supplier 2: Mouser; Supplier Part Number 2: 700-MAX4080TAUAV+T; Mounting Technology: Surface Mount; Code_JEDEC: MO-187; ComponentLink1Description: Manufacturer URL; ComponentLink1URL: http://www.maximintegrated.com/; ComponentLink2Description: Datasheet; ComponentLink2URL: http://datasheets.maximintegrated.com/en/ds/MAX4080-MAX4081.pdf; ComponentLink3Description: Package Specification; ComponentLink3URL: http://pdfserv.maximintegrated.com/package_dwgs/21-0036.PDF
footprint MAXM-U8+1_N (SOP, 8-Leads, Body 3x3mm, Pitch 0.65mm, IPC Medium Density)
footprint MAXM-U8+1_L (SOP, 8-Leads, Body 3x3mm, Pitch 0.65mm, IPC High Density)
footprint MAXM-U8+1_M (SOP, 8-Leads, Body 3x3mm, Pitch 0.65mm, IPC Low Density)
pins: 1 RS+ (in) "Power connection to the external-sense resistor.", 2 VCC (power) "Supply Voltage Input. Decouple VCC to GND with at least a 0.1uF capacitor to bypass line transients.", 3 NC "No Connection. No internal connection. Leave open or connect to ground.", 4 GND (power) "Ground", 5 OUT (out) "Voltage Output. For the unidirectional MAX4080, VOUT is proportional to VSENSE. For the bidirectional MAX4081, the difference voltage (VOUT - VREF) is proportional to VSENSE and indicates the correct polarity.", 6 NC "No Connection. No internal connection. Leave open or connect to ground.", 7 NC "No Connection. No internal connection. Leave open or connect to ground.", 8 RS- (in) "Load connection to the external sense resistor."

## MAX4081FASA
designator U?
76 V, High-Side, Bi-directional Current-Sense Amplifier, 5 V / V Gain, -40 to 125 degC, 8-Pin SOIC (S8-2); PartNumber: MAX4081FASA; Bi-Dir. Curr. Sense: Yes; Gain: 5 V/V, 20 V/V ,60 V/V; Industry Qualified: Automotive - AECQ100, Automotive - General; DatasheetVersion: Rev. 4; PackageVersion: Rev. D, 10/2012; PackageReference: S8-2; PackageDescription: 8-Pin Small-Outline IC, Narrow (0.15in) (S8-2), Body 4.90 x 3.90 mm, Pitch 1.27 mm; Supplier 1: Digi-Key; Supplier Part Number 1: MAX4081FASA-ND; Supplier 2: Mouser; Supplier Part Number 2: 700-MAX4081FASA-NR; Mounting Technology: Surface Mount; Code_JEDEC: MS012; ComponentLink1Description: Manufacturer URL; ComponentLink1URL: http://www.maximintegrated.com/; ComponentLink2Description: Datasheet; ComponentLink2URL: http://datasheets.maximintegrated.com/en/ds/MAX4080-MAX4081.pdf; ComponentLink3Description: Package Specification; ComponentLink3URL: http://pdfserv.maximintegrated.com/package_dwgs/21-0041.PDF
footprint MAXM-S8-2_N (SOIC, 8-Leads, Body 4.90x3.90mm, Pitch 1.27mm, IPC Medium Density)
footprint MAXM-S8-2_L (SOIC, 8-Leads, Body 4.90x3.90mm, Pitch 1.27mm, IPC High Density)
footprint MAXM-S8-2_M (SOIC, 8-Leads, Body 4.90x3.90mm, Pitch 1.27mm, IPC Low Density)
pins: 1 RS+ (in) "Power connection to the external-sense resistor.", 2 VCC (power) "Supply Voltage Input. Decouple VCC to GND with at least a 0.1uF capacitor to bypass line transients.", 3 NC "No Connection. No internal connection. Leave open or connect to ground.", 4 GND (power) "Ground", 5 OUT (out) "Voltage Output. For the unidirectional MAX4080, VOUT is proportional to VSENSE. For the bidirectional MAX4081, the difference voltage (VOUT - VREF) is proportional to VSENSE and indicates the correct polarity.", 6 REF1B (in) "Reference Voltage Input: Connect REF1B to REF1A or to GND (see the External Reference section).", 7 REF1A (in) "Reference Voltage Input: Connect REF1A and REF1B to a fixed reference voltage (VREF). VOUT is equal to VREF when VSENSE is zero (see the External Reference section).", 8 RS- (in) "Load connection to the external sense resistor."

## MAX4081FASA+
designator U?
76 V, High-Side, Bi-directional Current-Sense Amplifier, 5 V / V Gain, -40 to 125 degC, 8-Pin SOIC (S8+2), Pb-Free; PartNumber: MAX4081FASA+; Bi-Dir. Curr. Sense: Yes; Gain: 5 V/V, 20 V/V ,60 V/V; Industry Qualified: Automotive - AECQ100, Automotive - General; DatasheetVersion: Rev. 4; PackageVersion: Rev. D, 10/2012; PackageReference: S8+2; PackageDescription: 8-Pin Small-Outline IC, Narrow (0.15in) (S8+2), Body 4.90 x 3.90 mm, Pitch 1.27 mm; Supplier 1: Digi-Key; Supplier Part Number 1: MAX4081FASA+-ND; Supplier 2: Mouser; Supplier Part Number 2: 700-MAX4081FASA; Mounting Technology: Surface Mount; Code_JEDEC: MS012; ComponentLink1Description: Manufacturer URL; ComponentLink1URL: http://www.maximintegrated.com/; ComponentLink2Description: Datasheet; ComponentLink2URL: http://datasheets.maximintegrated.com/en/ds/MAX4080-MAX4081.pdf; ComponentLink3Description: Package Specification; ComponentLink3URL: http://pdfserv.maximintegrated.com/package_dwgs/21-0041.PDF
footprint MAXM-S8+2_N (SOIC, 8-Leads, Body 4.90x3.90mm, Pitch 1.27mm, IPC Medium Density)
footprint MAXM-S8+2_L (SOIC, 8-Leads, Body 4.90x3.90mm, Pitch 1.27mm, IPC High Density)
footprint MAXM-S8+2_M (SOIC, 8-Leads, Body 4.90x3.90mm, Pitch 1.27mm, IPC Low Density)
pins: 1 RS+ (in) "Power connection to the external-sense resistor.", 2 VCC (power) "Supply Voltage Input. Decouple VCC to GND with at least a 0.1uF capacitor to bypass line transients.", 3 NC "No Connection. No internal connection. Leave open or connect to ground.", 4 GND (power) "Ground", 5 OUT (out) "Voltage Output. For the unidirectional MAX4080, VOUT is proportional to VSENSE. For the bidirectional MAX4081, the difference voltage (VOUT - VREF) is proportional to VSENSE and indicates the correct polarity.", 6 REF1B (in) "Reference Voltage Input: Connect REF1B to REF1A or to GND (see the External Reference section).", 7 REF1A (in) "Reference Voltage Input: Connect REF1A and REF1B to a fixed reference voltage (VREF). VOUT is equal to VREF when VSENSE is zero (see the External Reference section).", 8 RS- (in) "Load connection to the external sense resistor."

## MAX4081FASA+T
designator U?
76 V, High-Side, Bi-directional Current-Sense Amplifier, 5 V / V Gain, -40 to 125 degC, 8-Pin SOIC (S8+2), Pb-Free, Tape and Reel; PartNumber: MAX4081FASA+T; Bi-Dir. Curr. Sense: Yes; Gain: 5 V/V, 20 V/V ,60 V/V; Industry Qualified: Automotive - AECQ100, Automotive - General; DatasheetVersion: Rev. 4; PackageVersion: Rev. D, 10/2012; PackageReference: S8+2; PackageDescription: 8-Pin Small-Outline IC, Narrow (0.15in) (S8+2), Body 4.90 x 3.90 mm, Pitch 1.27 mm; Supplier 1: Digi-Key; Supplier Part Number 1: MAX4081FASA+T-ND; Supplier 2: Mouser; Supplier Part Number 2: 700-MAX4081FASA+T; Mounting Technology: Surface Mount; Code_JEDEC: MS012; ComponentLink1Description: Manufacturer URL; ComponentLink1URL: http://www.maximintegrated.com/; ComponentLink2Description: Datasheet; ComponentLink2URL: http://datasheets.maximintegrated.com/en/ds/MAX4080-MAX4081.pdf; ComponentLink3Description: Package Specification; ComponentLink3URL: http://pdfserv.maximintegrated.com/package_dwgs/21-0041.PDF
footprint MAXM-S8+2_N (SOIC, 8-Leads, Body 4.90x3.90mm, Pitch 1.27mm, IPC Medium Density)
footprint MAXM-S8+2_L (SOIC, 8-Leads, Body 4.90x3.90mm, Pitch 1.27mm, IPC High Density)
footprint MAXM-S8+2_M (SOIC, 8-Leads, Body 4.90x3.90mm, Pitch 1.27mm, IPC Low Density)
pins: 1 RS+ (in) "Power connection to the external-sense resistor.", 2 VCC (power) "Supply Voltage Input. Decouple VCC to GND with at least a 0.1uF capacitor to bypass line transients.", 3 NC "No Connection. No internal connection. Leave open or connect to ground.", 4 GND (power) "Ground", 5 OUT (out) "Voltage Output. For the unidirectional MAX4080, VOUT is proportional to VSENSE. For the bidirectional MAX4081, the difference voltage (VOUT - VREF) is proportional to VSENSE and indicates the correct polarity.", 6 REF1B (in) "Reference Voltage Input: Connect REF1B to REF1A or to GND (see the External Reference section).", 7 REF1A (in) "Reference Voltage Input: Connect REF1A and REF1B to a fixed reference voltage (VREF). VOUT is equal to VREF when VSENSE is zero (see the External Reference section).", 8 RS- (in) "Load connection to the external sense resistor."

## MAX4081FASA-T
designator U?
76 V, High-Side, Bi-directional Current-Sense Amplifier, 5 V / V Gain, -40 to 125 degC, 8-Pin SOIC (S8-2), Tape and Reel; PartNumber: MAX4081FASA-T; Bi-Dir. Curr. Sense: Yes; Gain: 5 V/V, 20 V/V ,60 V/V; Industry Qualified: Automotive - AECQ100, Automotive - General; DatasheetVersion: Rev. 4; PackageVersion: Rev. D, 10/2012; PackageReference: S8-2; PackageDescription: 8-Pin Small-Outline IC, Narrow (0.15in) (S8-2), Body 4.90 x 3.90 mm, Pitch 1.27 mm; Supplier 1: Digi-Key; Supplier Part Number 1: MAX4081FASA-T-ND; Supplier 2: Mouser; Supplier Part Number 2: 700-MAX4081FASA-T-; Mounting Technology: Surface Mount; Code_JEDEC: MS012; ComponentLink1Description: Manufacturer URL; ComponentLink1URL: http://www.maximintegrated.com/; ComponentLink2Description: Datasheet; ComponentLink2URL: http://datasheets.maximintegrated.com/en/ds/MAX4080-MAX4081.pdf; ComponentLink3Description: Package Specification; ComponentLink3URL: http://pdfserv.maximintegrated.com/package_dwgs/21-0041.PDF
footprint MAXM-S8-2_N (SOIC, 8-Leads, Body 4.90x3.90mm, Pitch 1.27mm, IPC Medium Density)
footprint MAXM-S8-2_L (SOIC, 8-Leads, Body 4.90x3.90mm, Pitch 1.27mm, IPC High Density)
footprint MAXM-S8-2_M (SOIC, 8-Leads, Body 4.90x3.90mm, Pitch 1.27mm, IPC Low Density)
pins: 1 RS+ (in) "Power connection to the external-sense resistor.", 2 VCC (power) "Supply Voltage Input. Decouple VCC to GND with at least a 0.1uF capacitor to bypass line transients.", 3 NC "No Connection. No internal connection. Leave open or connect to ground.", 4 GND (power) "Ground", 5 OUT (out) "Voltage Output. For the unidirectional MAX4080, VOUT is proportional to VSENSE. For the bidirectional MAX4081, the difference voltage (VOUT - VREF) is proportional to VSENSE and indicates the correct polarity.", 6 REF1B (in) "Reference Voltage Input: Connect REF1B to REF1A or to GND (see the External Reference section).", 7 REF1A (in) "Reference Voltage Input: Connect REF1A and REF1B to a fixed reference voltage (VREF). VOUT is equal to VREF when VSENSE is zero (see the External Reference section).", 8 RS- (in) "Load connection to the external sense resistor."

## MAX4081FAUA
designator U?
76 V, High-Side, Bi-directional Current-Sense Amplifier, 5 V / V Gain, -40 to 125 degC, 8-Pin SOP (U8-1); PartNumber: MAX4081FAUA; Bi-Dir. Curr. Sense: Yes; Gain: 5 V/V, 20 V/V ,60 V/V; Industry Qualified: Automotive - AECQ100, Automotive - General; DatasheetVersion: Rev. 4; PackageVersion: Rev. L, 08/2009; PackageReference: U8-1; PackageDescription: 8-Pin Micro-MAX, Thin Shrink Small-Outline (U8-1), Body 3 x 3 mm, Pitch 0.65mm; Supplier 1: Digi-Key; Supplier Part Number 1: MAX4081FAUA-ND; Supplier 2: Mouser; Supplier Part Number 2: 700-MAX4081FAUA-NR; Mounting Technology: Surface Mount; Code_JEDEC: MO-187; ComponentLink1Description: Manufacturer URL; ComponentLink1URL: http://www.maximintegrated.com/; ComponentLink2Description: Datasheet; ComponentLink2URL: http://datasheets.maximintegrated.com/en/ds/MAX4080-MAX4081.pdf; ComponentLink3Description: Package Specification; ComponentLink3URL: http://pdfserv.maximintegrated.com/package_dwgs/21-0036.PDF
footprint MAXM-U8-1_N (SOP, 8-Leads, Body 3x3mm, Pitch 0.65mm, IPC Medium Density)
footprint MAXM-U8-1_L (SOP, 8-Leads, Body 3x3mm, Pitch 0.65mm, IPC High Density)
footprint MAXM-U8-1_M (SOP, 8-Leads, Body 3x3mm, Pitch 0.65mm, IPC Low Density)
pins: 1 RS+ (in) "Power connection to the external-sense resistor.", 2 VCC (power) "Supply Voltage Input. Decouple VCC to GND with at least a 0.1uF capacitor to bypass line transients.", 3 NC "No Connection. No internal connection. Leave open or connect to ground.", 4 GND (power) "Ground", 5 OUT (out) "Voltage Output. For the unidirectional MAX4080, VOUT is proportional to VSENSE. For the bidirectional MAX4081, the difference voltage (VOUT - VREF) is proportional to VSENSE and indicates the correct polarity.", 6 REF1B (in) "Reference Voltage Input: Connect REF1B to REF1A or to GND (see the External Reference section).", 7 REF1A (in) "Reference Voltage Input: Connect REF1A and REF1B to a fixed reference voltage (VREF). VOUT is equal to VREF when VSENSE is zero (see the External Reference section).", 8 RS- (in) "Load connection to the external sense resistor."